# Altium schematic symbol library RCLAMP1654P_NEW.SchLib: 1 symbol
Pins are listed as number, name and electrical type; pins without a type are passive.

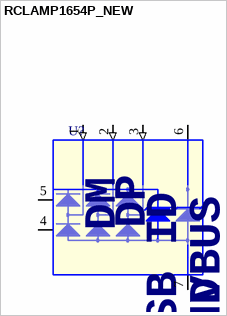
[diagram p0: symbol RCLAMP1654P_NEW]

## RCLAMP1654P_NEW
designator U?
DIODE TVS ARRAY 3 5.5V SLP1616P6
pins: 1 DM (in), 2 DP (in), 3 USB ID (in), 4 NC1, 5 NC2, 6 VBUS (power), 7 GND (power)